# Altium schematic symbol library Filters.SchLib: 70 symbols
Pins are listed as number, name and electrical type; pins without a type are passive.

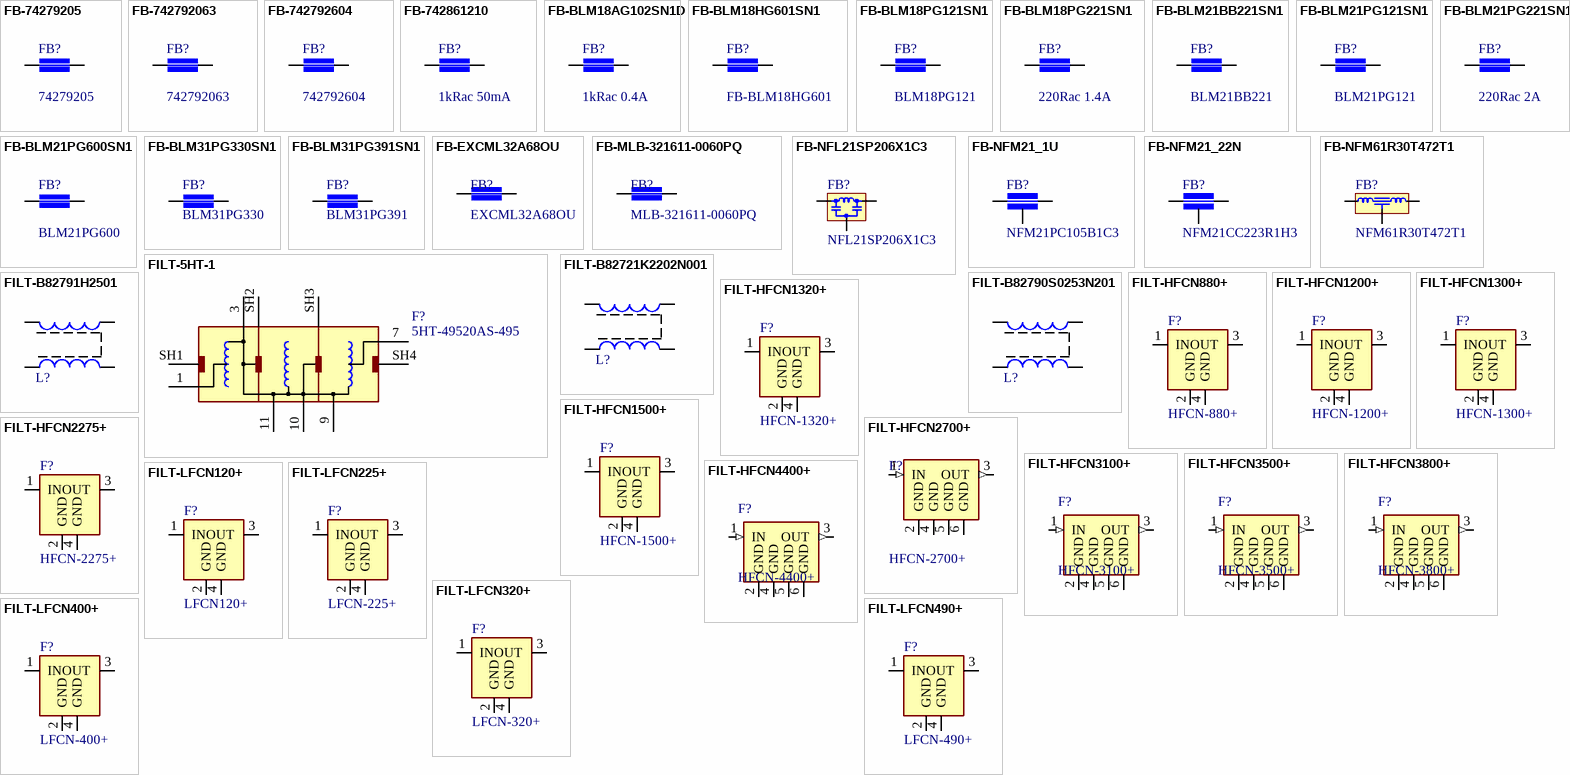
[diagram p0: symbols FB-74279205 to FILT-LFCN490+]

## FB-74279205
designator FB?, comment 74279205
Feritte filter smd 0805 0.2A; Manufacturer: Wurth Elektronik; Comment2: 1KRac 0.2A 0.45Rdc; Sort: 342; Tech: SMDR; Manufacturer No: 74279205; Package: Filter Chip 0805; Price: 0
signal-integrity model Model Name (Model Description)
footprint FB0805-1 (Chip Ferrite Bead, 2-Leads, Body 2,0x1,3mm, IPC Medium Density)
pins: 1, 2

## FB-742792063
designator FB?, comment 742792063
Feritte filter smd 0805 3A; Manufacturer: Wuerth Elektronik, Farnell; Manufacturer No: 742792063, 1635730; Comment2: 60Rac 3A 0.025Rdc; Sort: 342; Tech: SMDR; Package: Filter Chip 0805; Price: 0
signal-integrity model Model Name (Model Description)
footprint FB0805-1 (Chip Ferrite Bead, 2-Leads, Body 2,0x1,3mm, IPC Medium Density)
pins: 1, 2

## FB-742792604
designator FB?, comment 742792604
Feritte filter smd 0603 1A; Manufacturer: Wuerth Elektronik, Farnell; Manufacturer No: 742792604, 1635701; Comment2: 220Rac 1.0A 0.05Rdc; Sort: 342; Tech: SMDR; Package: Filter Chip 0603; Price: 0.15
signal-integrity model Model Name (Model Description)
footprint FB0603-1 (Chip Ferrite Bead, 2-Leads, Body 1,6x0,8mm, IPC Medium Density)
pins: 1, 2

## FB-742861210
designator FB?, comment 1kRac 50mA
Feritte filter smd 0603 0.05A; Manufacturer: Wuerth, Farnell; Manufacturer No: 742861210, 1748582; Comment2: 1kRac/100MHz 0.05A 1.8Rdc; Sort: 342; Tech: SMDR; Package: Filter Chip 0603; Price: 0.2
signal-integrity model Model Name (Model Description)
footprint FB0603-1 (Chip Ferrite Bead, 2-Leads, Body 1,6x0,8mm, IPC Medium Density)
pins: 1, 2

## FB-BLM18AG102SN1D
designator FB?, comment 1kRac 0.4A
Feritte filter smd 0603 0.4A; Manufacturer: Murata, Farnell; Manufacturer No: BLM18AG102SN1D, 1515671; Comment2: 1kRac/100MHz 0.4A 0.5Rdc; Sort: 342; Tech: SMDR; Package: Filter Chip 0603; Price: 0.06
signal-integrity model Model Name (Model Description)
footprint FB0603-1 (Chip Ferrite Bead, 2-Leads, Body 1,6x0,8mm, IPC Medium Density)
pins: 1, 2

## FB-BLM18HG601SN1
designator FB?, comment FB-BLM18HG601
Feritte filter smd 0603 0.2A; Manufacturer: Murata; Manufacturer No: BLM18HG601SN1; Comment2: 600Rac/100MHz 700Rac/1GHz 0.2A 1.0Rdc; Sort: 342; Tech: SMDR; Package: Filter Chip 0603; Price: 0
signal-integrity model Model Name (Model Description)
footprint FB0603-1 (Chip Ferrite Bead, 2-Leads, Body 1,6x0,8mm, IPC Medium Density)
pins: 1, 2

## FB-BLM18PG121SN1
designator FB?, comment BLM18PG121
Feritte filter smd 0603 2A; Manufacturer: Murata; Manufacturer No: BLM18PG121SN1; Comment2: 120Rac 2A 0.05Rdc; Sort: 342; Tech: SMDR; Package: Filter Chip 0603; Price: 0
signal-integrity model Model Name (Model Description)
footprint FB0603-1 (Chip Ferrite Bead, 2-Leads, Body 1,6x0,8mm, IPC Medium Density)
pins: 1, 2

## FB-BLM18PG221SN1
designator FB?, comment 220Rac 1.4A
Feritte filter smd 0603 1.4A; Manufacturer: Murata; Manufacturer No: BLM18PG221SN1; Comment2: 220Rac 1.4A 0.1Rdc; Sort: 342; Tech: SMDR; Package: Filter Chip 0603; Price: 0
signal-integrity model Model Name (Model Description)
footprint FB0603-1 (Chip Ferrite Bead, 2-Leads, Body 1,6x0,8mm, IPC Medium Density)
pins: 1, 2

## FB-BLM21BB221SN1
designator FB?, comment BLM21BB221
Feritte filter smd 0805 0.2A; Manufacturer: Murata; Manufacturer No: BLM21BB221SN1; Comment2: 220Rac 0.2A 0.035Rdc; Sort: 342; Tech: SMDR; Package: Filter Chip 0805; Price: 0
signal-integrity model Model Name (Model Description)
footprint FB0805-1 (Chip Ferrite Bead, 2-Leads, Body 2,0x1,3mm, IPC Medium Density)
pins: 1, 2

## FB-BLM21PG121SN1
designator FB?, comment BLM21PG121
Feritte filter smd 0805 2A; Manufacturer: Murata; Manufacturer No: BLM21PG121SN1; Comment2: 120Rac 3A 0.03Rdc; Sort: 342; Tech: SMDR; Package: Filter Chip 0805; Price: 0
signal-integrity model Model Name (Model Description)
footprint FB0805-1 (Chip Ferrite Bead, 2-Leads, Body 2,0x1,3mm, IPC Medium Density)
pins: 1, 2

## FB-BLM21PG221SN1
designator FB?, comment 220Rac 2A
Feritte filter smd 0805 2A; Manufacturer: Murata; Manufacturer No: BLM21PG221SN1; Comment2: 220Rac 2A 0.05Rdc; Sort: 342; Tech: SMDR; Package: Filter Chip 0805; Price: 0
signal-integrity model Model Name (Model Description)
footprint FB0805-1 (Chip Ferrite Bead, 2-Leads, Body 2,0x1,3mm, IPC Medium Density)
pins: 1, 2

## FB-BLM21PG600SN1
designator FB?, comment BLM21PG600
Feritte filter smd 0805 3A; Manufacturer: Murata; Manufacturer No: BLM21PG600SN1; Comment2: 60Rac 3A 0.025Rdc; Sort: 342; Tech: SMDR; Package: Filter Chip 0805; Price: 0
signal-integrity model Model Name (Model Description)
footprint FB0805-1 (Chip Ferrite Bead, 2-Leads, Body 2,0x1,3mm, IPC Medium Density)
pins: 1, 2

## FB-BLM31PG330SN1
designator FB?, comment BLM31PG330
Feritte filter smd 6A; Manufacturer: Murata; Manufacturer No: BLM31PG330SN1; Comment2: 33Rac 6A 0.01Rdc; Sort: 342; Tech: SMDR; Package: Filter Chip 1206; Price: 0
footprint FB1206-1 (Feritni filter smd 1206)
signal-integrity model Model Name (Model Description)
pins: 1, 2

## FB-BLM31PG391SN1
designator FB?, comment BLM31PG391
Feritte filter smd; Manufacturer: Murata; Manufacturer No: BLM31PG391SN1; Comment2: 390Rac 2A 0.05Rdc; Sort: 342; Tech: SMDR; Package: Filter Chip 1206; Price: 0
footprint FB1206-1 (Feritni filter smd 1206)
signal-integrity model Model Name (Model Description)
pins: 1, 2

## FB-EXCML32A68OU
designator FB?, comment EXCML32A68OU
Feritte filter smd 3A; Manufacturer: Farnell, Panasonic; Manufacturer No: 1292704, EXCML32A68OU; Comment2: 68Rac 3A 0.012Rdc; Sort: 342; Tech: SMDR; Package: Filter Chip 1206; Price: 0
footprint FB1206-1 (Feritni filter smd 1206)
signal-integrity model Model Name (Model Description)
pins: 1, 2

## FB-MLB-321611-0060PQ
designator FB?, comment MLB-321611-0060PQ
Feritte filter smd 3A; Manufacturer: Farnell, Kitagawa; Manufacturer No: 1308785, MLB-321611-0060PQ; Comment2: 60Rac 3A 0.04Rdc; Sort: 342; Tech: SMDR; Package: Filter Chip 1206; Price: 0
footprint FB1206-1 (Feritni filter smd 1206)
signal-integrity model Model Name (Model Description)
pins: 1, 2

## FB-NFL21SP206X1C3
designator FB?, comment NFL21SP206X1C3
Feritte filter smd; Manufacturer: Murata; Comment2: 20MHz 100mA 8.5R 16V; Sort: 342; Tech: SMDR; Manufacturer No: NFL21SP206X1C3; Package: Filter Chip 0805; Price: 0
signal-integrity model Model Name (Model Description)
footprint FV0805-1 (Chip filter 0805)
pins: 1, 2, 3 GND

## FB-NFM21_1U
designator FB?, comment NFM21PC105B1C3
Feritte filter smd; Manufacturer: Murata; Comment2: 1uF 4A 16V; Sort: 342; Tech: SMDR; Manufacturer No: NFM21PC105B1C3; Package: Filter Chip 0805; Price: 0
signal-integrity model Model Name (Model Description)
footprint FV0805-1 (Chip filter 0805)
pins: 1, 2, 3 GND

## FB-NFM21_22N
designator FB?, comment NFM21CC223R1H3
Feritte filter smd; Manufacturer: Murata; Comment2: 22nF 2A 50V; Sort: 342; Tech: SMDR; Manufacturer No: NFM21CC223R1H3; Package: Filter Chip 0805; Price: 0
signal-integrity model Model Name (Model Description)
footprint FV0805-1 (Chip filter 0805)
pins: 1, 2, 3 GND

## FB-NFM61R30T472T1
designator FB?, comment NFM61R30T472T1
Feritte filter smd; Manufacturer: Murata; Comment2: 4700pF 2A 50V; Sort: 342; Tech: SMDR; Manufacturer No: NFM61R30T472T1; Package: Filter 6.8x1.6mm; Price: 0
signal-integrity model Model Name (Model Description)
footprint NFM61
pins: 1, 2 GND, 3

## FILT-5HT-1
designator F?, comment 5HT-49520AS-495
RF filter Radial Helical triple tuned; Manufacturer: Toko; Comment2: 495MHz; Sort: 330; Tech: THTW; Package: TOKO5HTAS; Manufacturer No: 5HT-49520AS-495; Price: 0
footprint TOKO5HTAS (Filter 5HT aAS THT)
pins: 1, 3, 5 hidden, 7, 9, 10, 11, SH1, SH2, SH3, SH4

## FILT-B82721K2202N001
designator L?, comment 1m  (value not drawn)
Common mode filter 2A 250V 1mH; Manufacturer: Epcos, Burklin; Manufacturer No: B82721K2202N001, 75D4962; Comment2: 250V 2A 0.090R; Sort: 360; Tech: THDW; Price: 0
signal-integrity model Model Name (Model Description)
footprint L-COMMCHOKE-3 (common mode choke)
pins: 1, 2, 3, 4

## FILT-B82790S0253N201
designator L?, comment 25mH  (value not drawn)
Common mode filter 0.5A 250V 0.13Ohm; Manufacturer: Epcos; Manufacturer No: B82790S0253N201; Comment2: 250V 0.5A 0.13R; Sort: 360; Tech: THDW; Price: 0
signal-integrity model Model Name (Model Description)
footprint L-COMMCHOKE-2
pins: 1, 2, 3, 4

## FILT-B82791H2501
designator L?, comment 10mH  (value not drawn)
Common mode filter 0.5A 230V 1Ohm; Manufacturer: Epcos; Manufacturer No: B82791H2501N1; Sort: 360; Tech: THDW; Price: 0
signal-integrity model Model Name (Model Description)
footprint COMMCHOKE-1 (common mode choke)
pins: 1, 2, 3, 4

## FILT-HFCN880+
designator F?, comment HFCN-880+
High Pass Filter; Manufacturer: MiniCircuits; Comment2: 880 to 4600 MHz 50R; Sort: 340; Tech: SMDR; Manufacturer No: HFCN-880+; Package: Filter Chip 1206; Price: 0
footprint FV1206-1 (Filter chip 1206 4 pad)
pins: 1 IN, 2 GND, 3 OUT, 4 GND

## FILT-HFCN1200+
designator F?, comment HFCN-1200+
High Pass Filter; Manufacturer: MiniCircuits; Comment2: 1220 to 4600 MHz 50R; Sort: 340; Tech: SMDR; Manufacturer No: HFCN-1200+; Package: Filter Chip 1206; Price: 0
footprint FV1206-1 (Filter chip 1206 4 pad)
pins: 1 IN, 2 GND, 3 OUT, 4 GND

## FILT-HFCN1300+
designator F?, comment HFCN-1300+
High Pass Filter; Manufacturer: MiniCircuits; Comment2: 1510 to 5000 MHz 50R; Sort: 340; Tech: SMDR; Manufacturer No: HFCN-1300+; Package: Filter Chip 1206; Price: 0
footprint FV1206-1 (Filter chip 1206 4 pad)
pins: 1 IN, 2 GND, 3 OUT, 4 GND

## FILT-HFCN1320+
designator F?, comment HFCN-1320+
High Pass Filter; Manufacturer: MiniCircuits; Comment2: 1400 to 5000 MHz 50R; Sort: 340; Tech: SMDR; Manufacturer No: HFCN-1320+; Package: Filter Chip 1206; Price: 0
footprint FV1206-1 (Filter chip 1206 4 pad)
pins: 1 IN, 2 GND, 3 OUT, 4 GND

## FILT-HFCN1500+
designator F?, comment HFCN-1500+
High Pass Filter; Manufacturer: MiniCircuits; Comment2: 1600 to 5500 MHz 50R; Sort: 340; Tech: SMDR; Manufacturer No: HFCN-1500+; Package: Filter Chip 1206; Price: 0
footprint FV1206-1 (Filter chip 1206 4 pad)
pins: 1 IN, 2 GND, 3 OUT, 4 GND

## FILT-HFCN2275+
designator F?, comment HFCN-2275+
High Pass Filter; Manufacturer: MiniCircuits; Comment2: 2275 to 7550 MHz 50R; Sort: 340; Tech: SMDR; Manufacturer No: HFCN-2275+; Package: Filter Chip 1206; Price: 0
footprint FV1206-1 (Filter chip 1206 4 pad)
pins: 1 IN, 2 GND, 3 OUT, 4 GND

## FILT-HFCN2700+
designator F?, comment HFCN-2700+
High Pass Filter; Manufacturer: MiniCircuits; Comment2: 3150 to 7550 MHz 50R; Sort: 340; Tech: SMDR; Manufacturer No: HFCN-2700+; Package: Filter Chip 1206; Price: 0
footprint FV1206-6 (Filter chip 1206 6pad)
pins: 1 IN (in), 2 GND (power), 3 OUT (out), 4 GND (power), 5 GND (power), 6 GND (power)

## FILT-HFCN3100+
designator F?, comment HFCN-3100+
High Pass Filter; Manufacturer: MiniCircuits; Comment2: FROM 3400 MHz TO 9900MHz  50R; Sort: 330; Tech: SMDR; Manufacturer No: HFCN-3100+; Package: Chip Filter 1206 6pin; Price: 0
footprint FV1206-6 (Filter chip 1206 6pad)
pins: 1 IN (in), 2 GND (power), 3 OUT (out), 4 GND (power), 5 GND (power), 6 GND (power)

## FILT-HFCN3500+
designator F?, comment HFCN-3500+
High Pass Filter; Manufacturer: MiniCircuits; Comment2: FROM 3900 MHz TO 9800MHz  50R; Sort: 330; Tech: SMDR; Manufacturer No: HFCN-3500+; Package: Chip Filter 1206 6pin; Price: 0
footprint FV1206-6 (Filter chip 1206 6pad)
pins: 1 IN (in), 2 GND (power), 3 OUT (out), 4 GND (power), 5 GND (power), 6 GND (power)

## FILT-HFCN3800+
designator F?, comment HFCN-3800+
High Pass Filter; Manufacturer: MiniCircuits; Comment2: FROM 3800 MHz  50R; Sort: 330; Tech: SMDR; Manufacturer No: HFCN-3800+; Package: Chip Filter 1206 6pin; Price: 0
footprint FV1206-6 (Filter chip 1206 6pad)
pins: 1 IN (in), 2 GND (power), 3 OUT (out), 4 GND (power), 5 GND (power), 6 GND (power)

## FILT-HFCN4400+
designator F?, comment HFCN-4400+
High Pass Filter; Manufacturer: MiniCircuits; Comment2: 5000 to 10100MHz  50R; Sort: 330; Tech: SMDR; Manufacturer No: HFCN-4400+; Package: Chip Filter 1206 6pin; Price: 0
footprint FV1206-6 (Filter chip 1206 6pad)
pins: 1 IN (in), 2 GND (power), 3 OUT (out), 4 GND (power), 5 GND (power), 6 GND (power)

## FILT-LFCN120+
designator F?, comment LFCN120+
Low Pass Filter DC - 120MHz; Manufacturer: MiniCircuits; Comment2: DC to 120MHz  50R; Sort: 340; Tech: SMDR; Manufacturer No: LFCN120+; Package: Filter Chip 1206; Price: 3.5
footprint FV1206-1 (Filter chip 1206 4 pad)
pins: 1 IN, 2 GND, 3 OUT, 4 GND

## FILT-LFCN225+
designator F?, comment LFCN-225+
Low Pass Filter; Manufacturer: MiniCircuits; Comment2: DC to 400MHz 50R; Sort: 340; Tech: SMDR; Manufacturer No: LFCN-225+; Package: Filter Chip 1206; Price: 0
footprint FV1206-1 (Filter chip 1206 4 pad)
pins: 1 IN, 2 GND, 3 OUT, 4 GND

## FILT-LFCN320+
designator F?, comment LFCN-320+
Low Pass Filter; Manufacturer: MiniCircuits; Comment2: DC to 320MHz 50R; Sort: 340; Tech: SMDR; Manufacturer No: LFCN-320+; Package: Filter Chip 1206; Price: 0
footprint FV1206-1 (Filter chip 1206 4 pad)
pins: 1 IN, 2 GND, 3 OUT, 4 GND

## FILT-LFCN400+
designator F?, comment LFCN-400+
Low Pass Filter; Manufacturer: MiniCircuits; Comment2: DC to 400MHz 50R; Sort: 340; Tech: SMDR; Manufacturer No: LFCN-400+; Package: Filter Chip 1206; Price: 0
footprint FV1206-1 (Filter chip 1206 4 pad)
pins: 1 IN, 2 GND, 3 OUT, 4 GND

## FILT-LFCN490+
designator F?, comment LFCN-490+
Low Pass Filter; Manufacturer: MiniCircuits; Comment2: DC to 490MHz 50R; Sort: 340; Tech: SMDR; Manufacturer No: LFCN-490+; Package: Filter Chip 1206; Price: 0
footprint FV1206-1 (Filter chip 1206 4 pad)
pins: 1 IN, 2 GND, 3 OUT, 4 GND

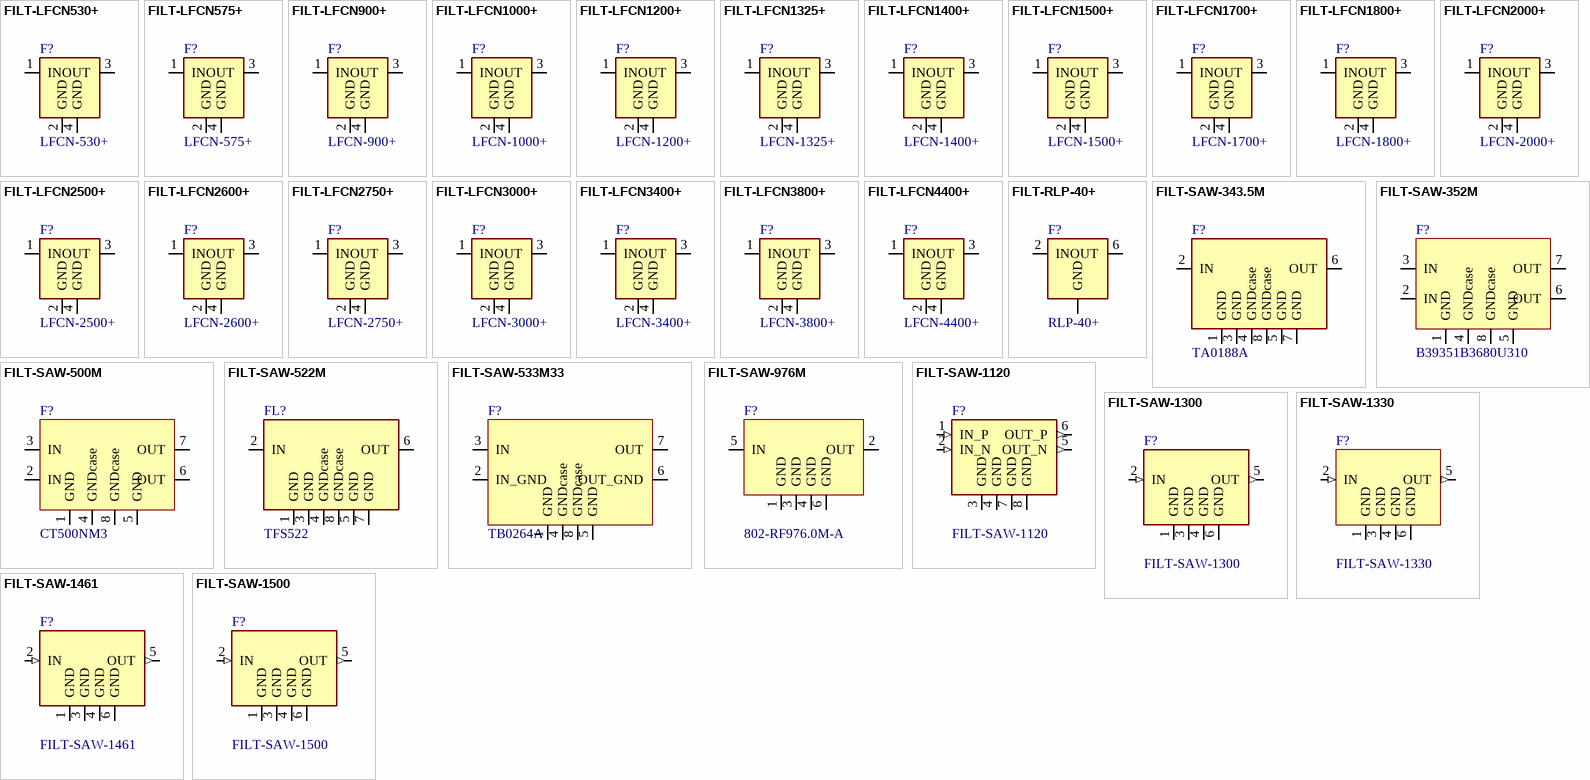
[diagram p1: symbols FILT-LFCN530+ to FILT-SAW-1500]

## FILT-LFCN530+
designator F?, comment LFCN-530+
Low Pass Filter DC - 530MHz; Manufacturer: MiniCircuits; Comment2: DC to 530MHz  50R; Sort: 340; Tech: SMDR; Manufacturer No: LFCN-530+; Package: Filter Chip 1206; Price: 2.5
footprint FV1206-1 (Filter chip 1206 4 pad)
pins: 1 IN, 2 GND, 3 OUT, 4 GND

## FILT-LFCN575+
designator F?, comment LFCN-575+
Low Pass Filter; Manufacturer: MiniCircuits; Comment2: DC to 575MHz  50R; Sort: 340; Tech: SMDR; Manufacturer No: LFCN-575+; Package: Filter Chip 1206; Price: 0
footprint FV1206-1 (Filter chip 1206 4 pad)
pins: 1 IN, 2 GND, 3 OUT, 4 GND

## FILT-LFCN900+
designator F?, comment LFCN-900+
Low Pass Filter; Manufacturer: MiniCircuits; Comment2: DC to 900MHz  50R; Sort: 340; Tech: SMDR; Manufacturer No: LFCN-900+; Package: Filter Chip 1206; Price: 0
footprint FV1206-1 (Filter chip 1206 4 pad)
pins: 1 IN, 2 GND, 3 OUT, 4 GND

## FILT-LFCN1000+
designator F?, comment LFCN-1000+
Low Pass Filter; Manufacturer: MiniCircuits; Comment2: DC to 1000MHz  50R; Sort: 340; Tech: SMDR; Manufacturer No: LFCN-1000+; Package: Filter Chip 1206; Price: 0
footprint FV1206-1 (Filter chip 1206 4 pad)
pins: 1 IN, 2 GND, 3 OUT, 4 GND

## FILT-LFCN1200+
designator F?, comment LFCN-1200+
Low Pass Filter; Manufacturer: MiniCircuits; Comment2: DC to 1200MHz 50R; Sort: 340; Tech: SMDR; Manufacturer No: LFCN-1200+; Package: Filter Chip 1206; Price: 0
footprint FV1206-1 (Filter chip 1206 4 pad)
pins: 1 IN, 2 GND, 3 OUT, 4 GND

## FILT-LFCN1325+
designator F?, comment LFCN-1325+
Low Pass Filter; Manufacturer: MiniCircuits; Comment2: DC to 1325MHz 50R; Sort: 340; Tech: SMDR; Manufacturer No: LFCN-1325+; Package: Filter Chip 1206; Price: 0
footprint FV1206-1 (Filter chip 1206 4 pad)
pins: 1 IN, 2 GND, 3 OUT, 4 GND

## FILT-LFCN1400+
designator F?, comment LFCN-1400+
Low Pass Filter; Manufacturer: MiniCircuits; Comment2: DC to 1400MHz 50R; Sort: 340; Tech: SMDR; Manufacturer No: LFCN-1400+; Package: Filter Chip 1206; Price: 0
footprint FV1206-1 (Filter chip 1206 4 pad)
pins: 1 IN, 2 GND, 3 OUT, 4 GND

## FILT-LFCN1500+
designator F?, comment LFCN-1500+
Low Pass Filter; Manufacturer: MiniCircuits; Comment2: DC to 1500MHz 50R; Sort: 340; Tech: SMDR; Manufacturer No: LFCN-1500+; Package: Filter Chip 1206; Price: 0
footprint FV1206-1 (Filter chip 1206 4 pad)
pins: 1 IN, 2 GND, 3 OUT, 4 GND

## FILT-LFCN1700+
designator F?, comment LFCN-1700+
Low Pass Filter; Manufacturer: MiniCircuits; Comment2: DC to 1700MHz 50R; Sort: 340; Tech: SMDR; Manufacturer No: LFCN-1700+; Package: Filter Chip 1206; Price: 0
footprint FV1206-1 (Filter chip 1206 4 pad)
pins: 1 IN, 2 GND, 3 OUT, 4 GND

## FILT-LFCN1800+
designator F?, comment LFCN-1800+
Low Pass Filter; Manufacturer: MiniCircuits; Comment2: DC to 1800MHz 50R; Sort: 340; Tech: SMDR; Manufacturer No: LFCN-1800+; Package: Filter Chip 1206; Price: 0
footprint FV1206-1 (Filter chip 1206 4 pad)
pins: 1 IN, 2 GND, 3 OUT, 4 GND

## FILT-LFCN2000+
designator F?, comment LFCN-2000+
Low Pass Filter; Manufacturer: MiniCircuits; Comment2: DC to 2000MHz  50R; Sort: 340; Tech: SMDR; Manufacturer No: LFCN-2000+; Package: Filter Chip 1206; Price: 0
footprint FV1206-1 (Filter chip 1206 4 pad)
pins: 1 IN, 2 GND, 3 OUT, 4 GND

## FILT-LFCN2500+
designator F?, comment LFCN-2500+
High Pass Filter; Manufacturer: MiniCircuits; Comment2: DC to 2500 MHz 50R; Sort: 340; Tech: SMDR; Manufacturer No: LFCN-2500+; Package: Filter Chip 1206; Price: 0
footprint FV1206-1 (Filter chip 1206 4 pad)
pins: 1 IN, 2 GND, 3 OUT, 4 GND

## FILT-LFCN2600+
designator F?, comment LFCN-2600+
High Pass Filter; Manufacturer: MiniCircuits; Comment2: DC to 2600 MHz 50R; Sort: 340; Tech: SMDR; Manufacturer No: LFCN-2600+; Package: Filter Chip 1206; Price: 0
footprint FV1206-1 (Filter chip 1206 4 pad)
pins: 1 IN, 2 GND, 3 OUT, 4 GND

## FILT-LFCN2750+
designator F?, comment LFCN-2750+
High Pass Filter DC - 2750 MHz; Manufacturer: MiniCircuits; Comment2: DC to 2750 MHz 50R; Sort: 340; Tech: SMDR; Manufacturer No: LFCN-2750+; Package: Filter Chip 1206; Price: 0
footprint FV1206-1 (Filter chip 1206 4 pad)
pins: 1 IN, 2 GND, 3 OUT, 4 GND

## FILT-LFCN3000+
designator F?, comment LFCN-3000+
Low Pass Filter; Manufacturer: MiniCircuits; Comment2: DC to 3000MHz 50R; Sort: 340; Tech: SMDR; Manufacturer No: LFCN-3000+; Package: Filter Chip 1206; Price: 0
footprint FV1206-1 (Filter chip 1206 4 pad)
pins: 1 IN, 2 GND, 3 OUT, 4 GND

## FILT-LFCN3400+
designator F?, comment LFCN-3400+
Low Pass Filter; Manufacturer: MiniCircuits; Comment2: DC to 3400MHz 50R; Sort: 340; Tech: SMDR; Manufacturer No: LFCN-3400+; Package: Filter Chip 1206; Price: 0
footprint FV1206-1 (Filter chip 1206 4 pad)
pins: 1 IN, 2 GND, 3 OUT, 4 GND

## FILT-LFCN3800+
designator F?, comment LFCN-3800+
Low Pass Filter; Manufacturer: MiniCircuits; Comment2: DC to 3900MHz 50R; Sort: 340; Tech: SMDR; Manufacturer No: LFCN-3800+; Package: Filter Chip 1206; Price: 0
footprint FV1206-1 (Filter chip 1206 4 pad)
pins: 1 IN, 2 GND, 3 OUT, 4 GND

## FILT-LFCN4400+
designator F?, comment LFCN-4400+
Low Pass Filter; Manufacturer: MiniCircuits; Comment2: DC to 4400MHz 50R; Sort: 340; Tech: SMDR; Manufacturer No: LFCN-4400+; Package: Filter Chip 1206; Price: 2.5
footprint FV1206-1 (Filter chip 1206 4 pad)
pins: 1 IN, 2 GND, 3 OUT, 4 GND

## FILT-RLP-40+
designator F?, comment RLP-40+
Low Pass Filter; Manufacturer: MiniCircuits; Comment2: DC to 40MHz  50R; Sort: 340; Tech: SMDR; Manufacturer No: RLP-40+; Package: GP731; Price: 8
footprint GP731 (Low Pass Filter 8.9x8.9x2.54mm 8pin)
pins: 1 GND, 2 IN, 3 GND hidden, 4 GND hidden, 5 GND hidden, 6 OUT, 7 GND hidden, 8 GND hidden

## FILT-SAW-343.5M
designator F?, comment TA0188A
SAW filter SMD; Manufacturer: C-Tech; Comment2: 343.5MHz; Sort: 350; Tech: SMDR; Manufacturer No: TA0188A; Package: QCC8C; Price: 0
footprint QCC8C-3 (SAW filter 8 pin R1.27mm)
pins: 1 GND, 2 IN, 3 GND, 4 GNDcase, 5 GND, 6 OUT, 7 GND, 8 GNDcase

## FILT-SAW-352M
designator F?, comment B39351B3680U310
SAW filter SMD; Manufacturer: EPCOS; Comment2: 352MHz; Sort: 350; Tech: SMDR; Manufacturer No: B39351B3680U310; Package: QCC8C; Price: 0
footprint QCC8C-1 (SAW filter 8 pin R1.27mm)
pins: 1 GND, 2 IN, 3 IN, 4 GNDcase, 5 GND, 6 OUT, 7 OUT, 8 GNDcase

## FILT-SAW-500M
designator F?, comment CT500NM3
SAW filter SMD; Manufacturer: C-Tech; Comment2: 500MHz; Sort: 350; Tech: SMDR; Manufacturer No: CT500NM3; Package: QCC8; Price: 0
footprint QCC8C-1 (SAW filter 8 pin R1.27mm)
pins: 1 GND, 2 IN, 3 IN, 4 GNDcase, 5 GND, 6 OUT, 7 OUT, 8 GNDcase

## FILT-SAW-522M
designator FL?, comment TFS522
SAW filter SMD; Manufacturer: Vectron; Comment2: 522MHz 24MHzbp 50Z; Sort: 350; Tech: SMDR; Manufacturer No: TFS522; Package: SAW filter 8 pin; Price: 0
footprint SAW_SQ38H12N-8 (SAW filter 8 pin 3,8x3,8x1,2mm; P1,27mm)
footprint SAW_SQ38&50H12N-8 (SAW filter 8 pin 3,8x3,8x1,2mm&5x5x1.2mm; P1,27mm)
pins: 1 GND, 2 IN, 3 GND, 4 GNDcase, 5 GND, 6 OUT, 7 GND, 8 GNDcase

## FILT-SAW-533M33
designator F?, comment TB0264A
SAW filter SMD; Manufacturer: TAI-SAW; Comment2: 533.33MHz; Sort: 350; Tech: SMDR; Manufacturer No: TB0264A; Package: QCC8; Price: 0
footprint QCC8C-2 (SAW filter 8 pin R1.27mm)
pins: 1 GND, 2 IN_GND, 3 IN, 4 GNDcase, 5 GND, 6 OUT_GND, 7 OUT, 8 GNDcase

## FILT-SAW-976M
designator F?, comment 802-RF976.0M-A
SAW filter SMD; Manufacturer: OSCILENT; Comment2: 976MHz; Sort: 350; Tech: SMDR; Manufacturer No: 802-RF976.0M-A; Package: 3x3SMD; Price: 0
footprint SAW3&1.3 (SAW filter 3x3 6pin; R1.27mm)
pins: 1 GND, 2 OUT, 3 GND, 4 GND, 5 IN, 6 GND

## FILT-SAW-1120
designator F?
DIF SAW filter SMD; Manufacturer: TST; Manufacturer No: TA0267A; Comment2: 1120MHz; Sort: 350; Tech: SMDR; Package: SMD 3.0x3.0; Price: 0
footprint SAW1120 (SAW filter 8 pin 3MM; R1.27mm)
pins: 1 IN_P (in), 2 IN_N (in), 3 GND (power), 4 GND (power), 5 OUT_N (out), 6 OUT_P (out), 7 GND (power), 8 GND (power)

## FILT-SAW-1300
designator F?
SAW filter SMD; Manufacturer: TST; Manufacturer No: TA0536A; Comment2: 1300MHz; Sort: 350; Tech: SMDR; Package: SMD 3.0x3.0; Price: 0
footprint SAW3&1.3 (SAW filter 3x3 6pin; R1.27mm)
pins: 1 GND (power), 2 IN (in), 3 GND (power), 4 GND (power), 5 OUT (out), 6 GND (power)

## FILT-SAW-1330
designator F?
SAW filter SMD; Manufacturer: TST; Manufacturer No: TA0566A; Sort: 350; Tech: SMDR; Package: SMD 3.0x3.0; Price: 0
footprint SAW3&1.3 (SAW filter 3x3 6pin; R1.27mm)
pins: 1 GND (power), 2 IN (in), 3 GND (power), 4 GND (power), 5 OUT (out), 6 GND (power)

## FILT-SAW-1461
designator F?
SAW filter SMD; Manufacturer: TST; Manufacturer No: TA0719A; Comment2: 1461.5MHz; Sort: 350; Tech: SMDR; Package: SMD 3.0x3.0; Price: 0
footprint SAW3&1.3 (SAW filter 3x3 6pin; R1.27mm)
pins: 1 GND (power), 2 IN (in), 3 GND (power), 4 GND (power), 5 OUT (out), 6 GND (power)

## FILT-SAW-1500
designator F?
SAW filter SMD; Manufacturer: TST; Manufacturer No: TA0522A; Comment2: 1500MHz SMD 3x3mm; Sort: 350; Tech: SMDR; Package: SMD 3.0x3.0; Price: 0
footprint SAW3&1.3 (SAW filter 3x3 6pin; R1.27mm)
pins: 1 GND (power), 2 IN (in), 3 GND (power), 4 GND (power), 5 OUT (out), 6 GND (power)